# Altium footprint library switch.PCBLIB: 5 footprints
Each footprint in its own frame and in the unit in brackets; x right, y up, seen from the top. Pads: shape width x height; smd on the part's side, far side on the other; paste and mask are expansions set on the pad; w line width, h text height; cw(c..) or ccw(c..) is an arc to the next point about the centre after c.
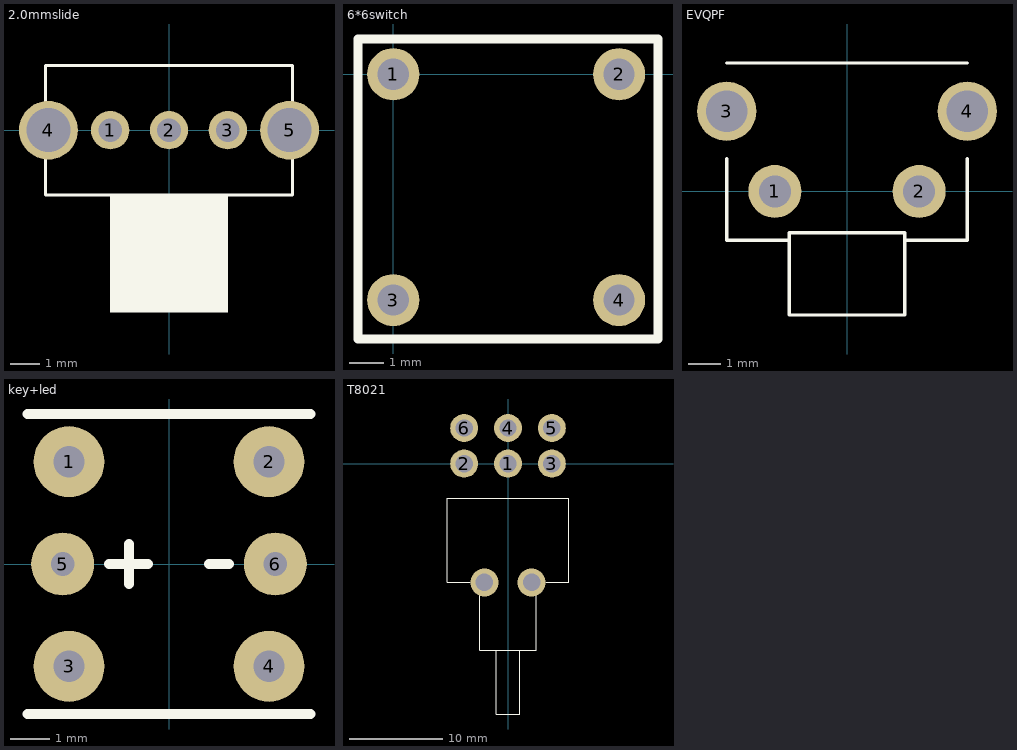
[diagram p0: the footprints below, top view; thin cyan lines are the x and y axes]

## 2.0mmslide [mm] "滑动开关，2.0mm"
height 3.9
pads (5):
  round 1.3 hole 0.8: 1(-2,0) 2(0,0) 3(2,0)
  round 2 hole 1.5: 4(-4.1,0) 5(4.1,0)
Top Overlay:
  rectangle: -2,-6.2 2,-2.2
  lines w0.102: -4.2,-2.2 4.2,-2.2 4.2,2.2 -4.2,2.2 -4.2,-2.2

## 6*6switch [mm]
pads (4):
  round 1.5 hole 0.9 unplated: 1(0,0) 2(6.5,0) 3(0,-6.5) 4(6.5,-6.5)
Top Overlay:
  lines w0.254: -1.016,-7.62 7.62,-7.62 7.62,1.016 -1.016,1.016 -1.016,-7.62

## EVQPF [mm] "轻触开关"
height 7.1
pads (4):
  round 1.65 hole 1: 1(-2.25,0) 2(2.25,0)
  round 1.85 hole 1.3: 3(-3.75,2.5) 4(3.75,2.5)
Top Overlay:
  lines w0.102: -3.75,1.016 -3.75,-1.524 -1.8,-1.524 ; -3.75,4 3.75,4 ; 1.756,-1.292 -1.8,-1.292 -1.8,-3.85 1.8,-3.85 1.8,-1.292 ; 1.8,-1.524 3.75,-1.524 3.75,1.016

## key+led [mm] "带灯按键"
height 10
pads (6):
  round 1.8 hole 0.8: 1(-2.54,2.6) 2(2.54,2.6) 3(-2.54,-2.6) 4(2.54,-2.6)
  round 1.6 hole 0.6: 5(-2.7,0) 6(2.7,0)
Top Overlay:
  lines w0.254: -3.6,-3.81 3.6,-3.81 ; -3.6,3.81 3.6,3.81 ; -1.524,0 -0.533,0 ; -1.016,-0.508 -1.016,0.508 ; 1.016,0 1.524,0

## T8021 [mm] "钮子开关"
height 11.43
pads (6):
  round 3 hole 1.85: 1(0,0) 2(-4.69,0) 3(4.69,0) 4(0,3.81) 5(4.69,3.81) 6(-4.69,3.81)
via -2.54,-12.7 diameter 3 hole 1.85
via 2.54,-12.7 diameter 3 hole 1.85
Top Overlay:
  lines w0.102: -4.064,-12.7 -6.5,-12.7 -6.5,-3.7 6.5,-3.7 6.5,-12.7 4.064,-12.7 ; -3,-14 -3,-20 3,-20 3,-14 ; -1.27,-20 -1.27,-26.8 1.27,-26.8 1.27,-20